# Altium schematic symbol library L78L05CD13TR.Schlib: 1 symbol
Pins are listed as number, name and electrical type; pins without a type are passive.

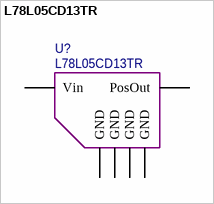
[diagram p0: symbol L78L05CD13TR]

## L78L05CD13TR
designator U?
pins: 1 PosOut, 2 GND, 3 GND, 6 GND, 7 GND, 8 Vin